# Altium schematic symbol library EVN-D8AA03B55.SchLib: 1 symbol
Pins are listed as number, name and electrical type; pins without a type are passive.

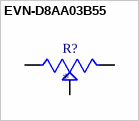
[diagram p0: symbol EVN-D8AA03B55]

## EVN-D8AA03B55
designator R?
500 kOhms 0.1W, 1/10W PC Pins Through Hole Trimmer Potentiometer Carbon 1.0 Turn Top Adjustment; MF: Panasonic Electronic; MP: EVN-D8AA03B55; SnapEDA_Link: https://www.snapeda.com/parts/EVN-D8AA03B55/Panasonic+Electronic+Components/view-part/?ref=snap; Package: PQFP-44 Panasonic; Value: *; Check_prices: https://www.snapeda.com/parts/EVN-D8AA03B55/Panasonic+Electronic+Components/view-part/?ref=eda
footprint TRIM_EVN-D8AA03B55
pins: 1, 2, 3